# Altium footprint library A-2004-2-4-LPS-N-R.PcbLib: 1 footprints
Each footprint in its own frame and in the unit in brackets; x right, y up, seen from the top. Pads: shape width x height; smd on the part's side, far side on the other; paste and mask are expansions set on the pad; w line width, h text height; cw(c..) or ccw(c..) is an arc to the next point about the centre after c.
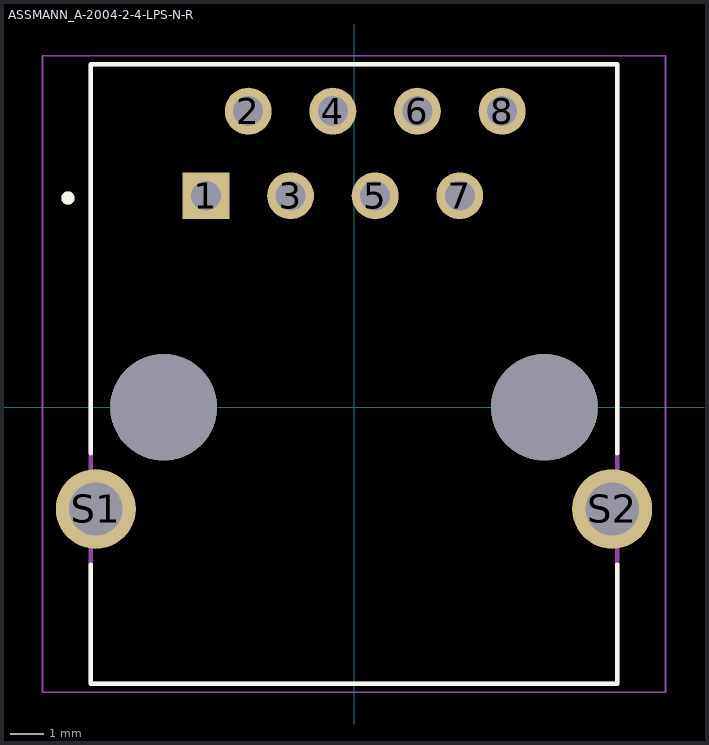
[diagram p0: the footprint, top view; thin cyan lines are the x and y axes]

## ASSMANN_A-2004-2-4-LPS-N-R [mm]
pads (12):
  rect 1.408x1.408 hole 0.9: 1(-4.445,6.35)
  round 1.408 hole 0.9: 2(-3.175,8.89) 3(-1.905,6.35) 4(-0.635,8.89) 5(0.635,6.35) 6(1.905,8.89) 7(3.175,6.35) 8(4.445,8.89)
  round 2.4 hole 1.6: S1(-7.75,-3.05) S2(7.75,-3.05)
  round 3.2 hole 3.2 unplated: ""(-5.715,0) ""(5.715,0)
Top Overlay:
  circle w0.2: c-8.586,6.281 r0.1
  lines w0.127: -7.9,-4.72 -7.9,-8.3 7.9,-8.3 7.9,-4.72 ; -7.9,-1.38 -7.9,10.3 7.9,10.3 7.9,-1.38
Mechanical 13:
  circle w0.2: c-8.586,6.281 r0.1
  lines w0.127: -7.9,-8.3 -7.9,10.3 7.9,10.3 7.9,-8.3 -7.9,-8.3
Mechanical 15:
  lines w0.05: -9.35,-8.55 9.35,-8.55 9.35,10.55 -9.35,10.55 -9.35,-8.55
3D body "step_temp.STEP": height 6.6, standoff -10.2, extent -7.9,0 7.9,18.6